# Altium schematic symbol library SCH - DRIVER - LED - TI TLC5904_PZP_100_A.SchLib: 1 symbol
Pins are listed as number, name and electrical type; pins without a type are passive.

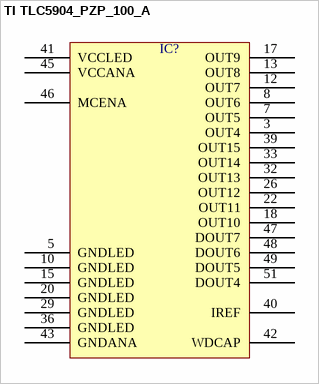
[diagram p0: symbol TI TLC5904_PZP_100_A]

## TI TLC5904_PZP_100_A
designator IC?  (value not drawn)
pins: 3 OUT4, 5 GNDLED, 7 OUT5, 8 OUT6, 10 GNDLED, 12 OUT7, 13 OUT8, 15 GNDLED, 17 OUT9, 18 OUT10, 20 GNDLED, 22 OUT11, 26 OUT12, 29 GNDLED, 32 OUT13, 33 OUT14, 36 GNDLED, 39 OUT15, 40 IREF, 41 VCCLED, 42 WDCAP, 43 GNDANA, 45 VCCANA, 46 MCENA, 47 DOUT7, 48 DOUT6, 49 DOUT5, 51 DOUT4